# Altium footprint library nixie_tubes.PcbLib: 2 footprints
Each footprint in its own frame and in the unit in brackets; x right, y up, seen from the top. Pads: shape width x height; smd on the part's side, far side on the other; paste and mask are expansions set on the pad; w line width, h text height; cw(c..) or ccw(c..) is an arc to the next point about the centre after c.
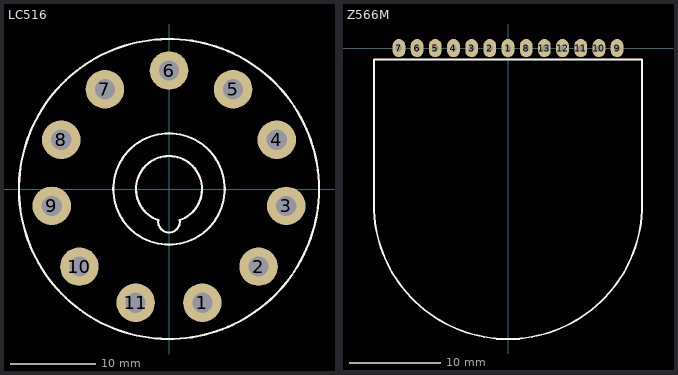
[diagram p0: the footprints below, top view; thin cyan lines are the x and y axes]

## LC516 [mm]
pads (11):
  round 4.5 hole 2.36: 1(3.899,-13.283) 2(10.462,-9.065) 3(13.702,-1.972) 4(12.593,5.749) 5(7.483,11.646) 6(0,13.843) 7(-7.483,11.646) 8(-12.592,5.752) 9(-13.702,-1.97) 10(-10.463,-9.064) 11(-3.902,-13.282)
Top Overlay:
  circle w0.254: c0,0 r17.526
  circle w0.254: c0,0 r6.506
  lines w0.254: -1.264,-3.684 ccw(c0,-3.81) 1.264,-3.684 ; -1.249,-3.642 cw(c0,0) 1.249,-3.642

## Z566M [mm]
pads (13):
  oval 1.4x2 hole 0.7: 1(0,0) 2(-2,0) 3(-4,0) 4(-6,0) 5(-8,0) 6(-10,0) 7(-12,0) 8(2,0) 9(12,0) 10(10,0) 11(8,0) 12(6,0) 13(4,0)
Top Overlay:
  lines w0.2: -1.25,-32 0,-32 1.25,-32 ; -14.75,-17.25 ccw(c0,-17.25) 14.75,-17.25 14.75,-1.25 -14.75,-1.25 -14.75,-17.25